# EAGLE library part 1-794623-2 (library con-amp_edit)
MICRO MATE N LOK Dual Row, grid 1.5 mm Source: http://catalog.tycoelectronics.com .. ENG_CD_794623_F.pdf
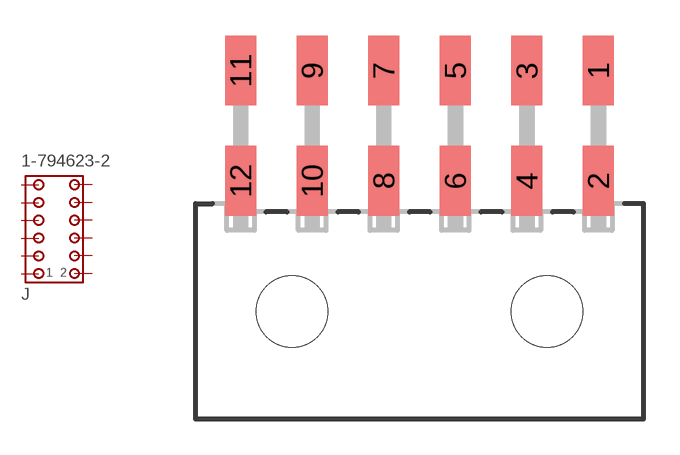
[diagram p154: symbol with the pads of 1-794623-2; footprint 1-794623-2]

Designator prefix J

## 1-794623-2  [1-794623-2]
1  1  pas
2  2  pas
3  3  pas
4  4  pas
5  5  pas
6  6  pas
7  7  pas
8  8  pas
9  9  pas
10  10  pas
11  11  pas
12  12  pas

## Footprint 1-794623-2 (pad centres in mm)
MICRO MATE N LOK Dual Row, grid 1.5 mm Source: http://catalog.tycoelectronics.com .. ENG_CD_794623_F.pdf
smd 1.3 x 2.92: 1 7.5,10.1; 2 7.5,5.48; 3 4.5,10.1; 4 4.5,5.48; 5 1.5,10.1; 6 1.5,5.48; 7 -1.5,10.1; 8 -1.5,5.48; 9 -4.5,10.1; 10 -4.5,5.48; 11 -7.5,10.1; 12 -7.5,5.48
hole 3 at -5.35,0
hole 3 at 5.35,0